# Altium footprint library SPBT2532C2.PcbLib: 1 footprints
Each footprint in its own frame and in the unit in brackets; x right, y up, seen from the top. Pads: shape width x height; smd on the part's side, far side on the other; paste and mask are expansions set on the pad; w line width, h text height; cw(c..) or ccw(c..) is an arc to the next point about the centre after c.
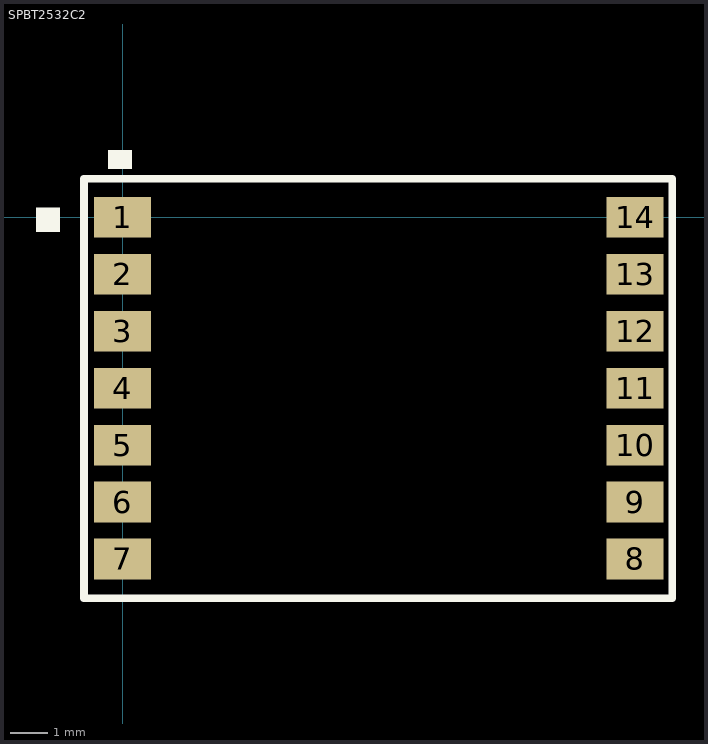
[diagram p0: the footprint, top view; thin cyan lines are the x and y axes]

## SPBT2532C2 [mm]
pads (14):
  rect 1.5x1.07 smd: 1(0,0) 2(0,-1.5) 3(0,-3) 4(0,-4.5) 5(0,-6) 6(0,-7.5) 7(0,-9) 8(13.5,-9) 9(13.5,-7.5) 10(13.5,-6) 11(13.5,-4.5) 12(13.5,-3) 13(13.5,-1.5) 14(13.5,0)
Top Overlay:
  rectangle: -0.381,1.27 0.254,1.778
  rectangle: -2.286,-0.381 -1.651,0.254
  lines w0.203: -1.016,-10.033 14.478,-10.033 14.478,1.016 -1.016,1.016 -1.016,-10.033